# Altium footprint library RCL.PcbLib: 86 footprints (part 3 of 6)
Each footprint in its own frame and in the unit in brackets; x right, y up, seen from the top. Pads: shape width x height; smd on the part's side, far side on the other; paste and mask are expansions set on the pad; w line width, h text height; cw(c..) or ccw(c..) is an arc to the next point about the centre after c.
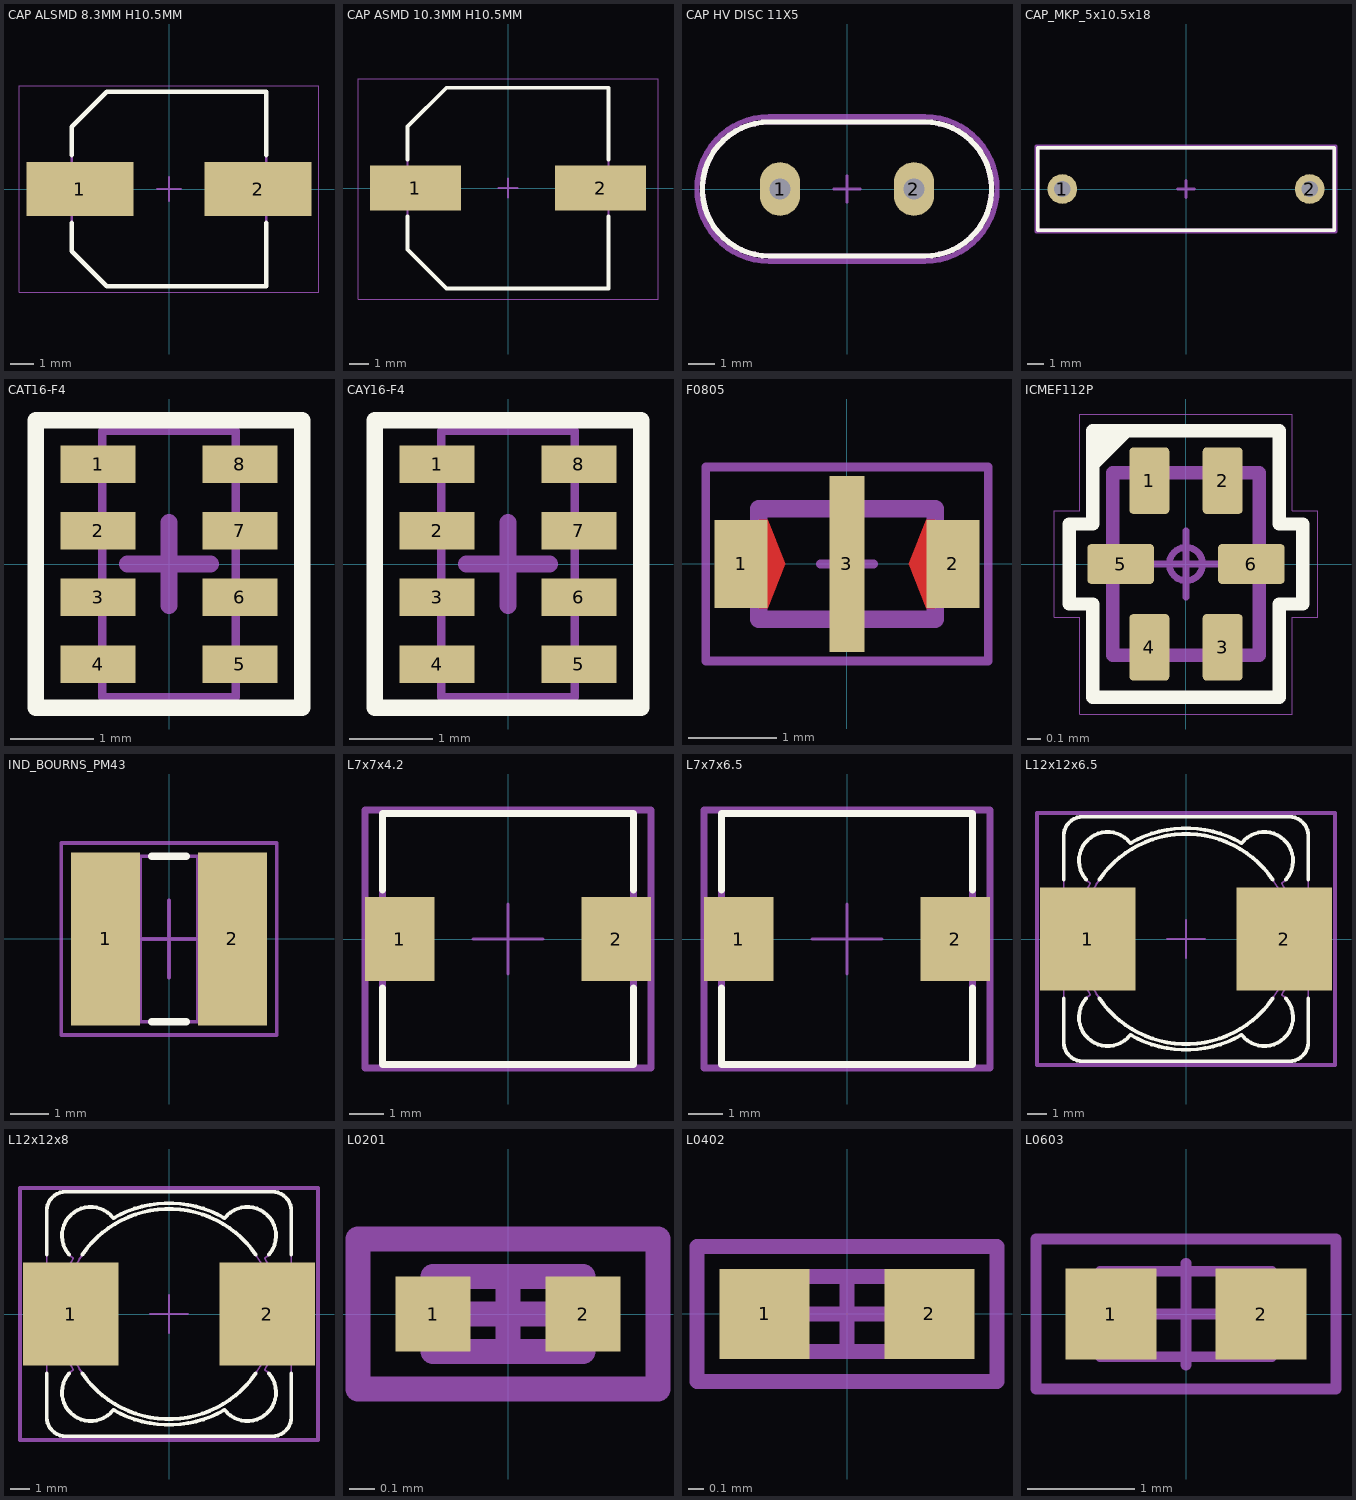
[diagram p2: the footprints below, top view; thin cyan lines are the x and y axes]

## CAP ALSMD 8.3MM H10.5MM [mm] "Aluminum Electrolytic Capacitor, Body 8.30x8.30x10.50mm, IPC Low Density"
height 10.5
pads (2):
  rect 4.55x2.3 smd: 1(-3.8,0) 2(3.8,0)
Top Overlay:
  lines w0.2: -4.15,-1.45 -4.15,-2.65 -2.65,-4.15 4.15,-4.15 4.15,-1.45 ; -4.15,1.45 -4.15,2.65 -2.65,4.15 4.15,4.15 4.15,1.45
Top Assembly (Mech3):
  lines w0.1: -4.15,-2.65 -4.15,2.65 -2.65,4.15 4.15,4.15 4.15,-4.15 -2.65,-4.15 -4.15,-2.65
  text "+" at -3.7,-0.7 h3.5
Top Courtyard:
  lines w0.05: -6.4,-4.4 6.4,-4.4 6.4,4.4 -6.4,4.4 -6.4,-4.4
  lines w0.1: -0.5,0 0.5,0 ; 0,-0.5 0,0.5
3D body "CAP ALUM 8_3mm.STEP": height 10.5, standoff 0, extent -4.95,-4.15 4.95,4.15

## CAP ASMD 10.3MM H10.5MM [mm] "Aluminum Electrolytic Capacitor, Body 10.30x10.30x10.50mm, IPC Low Density"
height 10.5
pads (2):
  rect 4.65x2.3 smd: 1(-4.75,0) 2(4.75,0)
Top Overlay:
  lines w0.2: -5.15,-1.45 -5.15,-3.15 -3.15,-5.15 5.15,-5.15 5.15,-1.45 ; -5.15,1.45 -5.15,3.15 -3.15,5.15 5.15,5.15 5.15,1.45
Top Assembly (Mech3):
  lines w0.1: -5.15,-3.15 -5.15,3.15 -3.15,5.15 5.15,5.15 5.15,-5.15 -3.15,-5.15 -5.15,-3.15
  text "+" at -4.6,-0.7 h3.5
Top Courtyard:
  lines w0.05: -7.7,-5.7 -7.7,5.6 7.7,5.6 7.7,-5.7 -7.7,-5.7
  lines w0.1: -0.5,0 0.5,0 ; 0,-0.5 0,0.5
3D body "CAP ALUM 10_3mm.STEP": height 10.5, standoff 0, extent -5.8,-5.15 5.8,5.15

## CAP HV DISC 11X5 [mm] "Capacitor, Disc, Radial, 11mm Dia x 5mm Pitch"
pads (2):
  oval 1.5x2 hole 0.8: 1(-2.5,0) 2(2.5,0)
Top Overlay:
  lines w0.2: 2.899,-2.5 -2.9,-2.5 cw(c-2.9,0) -2.9,2.5 2.899,2.5 cw(c2.899,0) 2.899,-2.5
Top Assembly (Mech3):
  lines w0.2: -2.9,-2.5 cw(c-2.9,0) -2.9,2.5 2.899,2.5 cw(c2.899,0) 2.899,-2.5 -2.9,-2.5
Top Courtyard:
  lines w0.1: -0.5,0 0.5,0 ; 0,-0.5 0,0.5
  lines w0.2: -2.899,-2.7 cw(c-2.9,0) -2.9,2.7 2.899,2.7 cw(c2.9,0) 2.9,-2.7 -2.899,-2.7
3D body "User Library-TDK_CAP_CK45_.STEP": height 15.5, standoff -2, extent -5.496,-2.5 5.497,2.5

## CAP_MKP_5x10.5x18 [mm] "Epcos B32652"
height 10.5
pads (2):
  round 1.8 hole 1 unplated: 1(-7.5,0) 2(7.5,0)
Top Overlay:
  lines w0.2: -9,-2.5 -9,2.5 9,2.5 9,-2.5 -9,-2.5
Top Assembly (Mech3):
  lines w0.2: -9,-2.5 9,-2.5 9,2.5 -9,2.5 -9,-2.5
Top Courtyard:
  lines w0.2: -0.5,0 0.5,0 ; 0,-0.5 0,0.5 ; -9.1,-2.6 9.1,-2.6 9.1,2.6 -9.1,2.6 -9.1,-2.6
3D body "User Library-B32652A_5x10_5x18.STEP": height 10.5, standoff -3, extent -9,-2.5 9,2.5

## CAT16-F4 [mm] "4 resistor 3.20x1.60mm, 0.7mm high"
height 0.7
pads (8):
  rect 0.9x0.45 smd: 1(-0.85,1.2) 2(-0.85,0.4) 3(-0.85,-0.4) 4(-0.85,-1.2) 5(0.85,-1.2) 6(0.85,-0.4) 7(0.85,0.4) 8(0.85,1.2)
Top Overlay:
  lines w0.2: -1.6,-1.725 1.6,-1.725 1.6,1.725 -1.6,1.725 -1.6,-1.725
Top Assembly (Mech3):
  lines w0.1: -0.8,-1.6 0.8,-1.6 0.8,1.6 -0.8,1.6 -0.8,-1.6
Top Courtyard:
  lines w0.05: -1.6,-1.8 -1.6,1.8 1.6,1.8 1.6,-1.8 -1.6,-1.8
  lines w0.2: -0.5,0 0.5,0 ; 0,-0.5 0,0.5
3D body "RESNET - 1206 Concave.step": height 0.6, standoff 0, extent -0.85,-1.65 0.85,1.65

## CAY16-F4 [mm] "4 resistor 3.20x1.60mm, 0.7mm high"
height 0.7
pads (8):
  rect 0.9x0.45 smd: 1(-0.85,1.2) 2(-0.85,0.4) 3(-0.85,-0.4) 4(-0.85,-1.2) 5(0.85,-1.2) 6(0.85,-0.4) 7(0.85,0.4) 8(0.85,1.2)
Top Overlay:
  lines w0.2: -1.6,-1.725 1.6,-1.725 1.6,1.725 -1.6,1.725 -1.6,-1.725
Top Assembly (Mech3):
  lines w0.1: -0.8,-1.6 0.8,-1.6 0.8,1.6 -0.8,1.6 -0.8,-1.6
Top Courtyard:
  lines w0.05: -1.6,-1.8 -1.6,1.8 1.6,1.8 1.6,-1.8 -1.6,-1.8
  lines w0.2: -0.5,0 0.5,0 ; 0,-0.5 0,0.5
3D body "RESNET - 1206 Convex.step": height 0.71, standoff 0, extent -0.837,-1.625 0.837,1.625

## F0805 [mm] "EMI Filter"
height 1
pads (3):
  rect 0.6x1 smd: 1(-1.2,0) 2(1.2,0)
  rect 0.4x2 smd: 3(0,0)
Top Layer:
  region: 1,0.5 0.9,0.5 0.7,0 0.9,-0.5 1,-0.5
  region: -1,-0.5 -0.9,-0.5 -0.7,0 -0.9,0.5 -1,0.5
Top Solder:
  region: 0.9,-0.6 0.8,-0.6 0.6,0 0.8,0.6 0.9,0.6
  region: -0.9,0.6 -0.8,0.6 -0.6,0 -0.8,-0.6 -0.9,-0.6
Top Assembly (Mech3):
  lines w0.2: -1,-0.625 1,-0.625 1,0.625 -1,0.625 -1,-0.625
Top Courtyard:
  lines w0.1: -0.3,0 0.3,0 ; 0,-0.3 0,0 0,0.3 ; -1.6,-1.1 1.6,-1.1 1.6,1.1 -1.6,1.1 -1.6,-1.1
3D body "User Library-NFL21SP.STEP": height 0.85, standoff 0, extent -1,-0.625 1,0.625

## ICMEF112P [mm]
pads (6):
  rrect20% 0.3x0.5 smd: 1(-0.275,0.625) 2(0.275,0.625) 3(0.275,-0.625) 4(-0.275,-0.625)
  rrect20% 0.5x0.3 smd: 5(-0.49,0) 6(0.49,0)
Top Overlay:
  region: -0.7,1 -0.375,1 -0.7,0.675
  lines w0.1: -0.7,1 -0.7,1 ; -0.7,1 -0.7,0.3 -0.875,0.3 -0.875,0 -0.875,-0.3 -0.7,-0.3 -0.7,-1 0.7,-1 0.7,-0.3 0.875,-0.3 0.875,0 0.875,0.3 0.7,0.3 0.7,1 ; -0.7,1 0.7,1 ; 0.7,1 0.7,1
Top Assembly (Mech3):
  lines w0.1: -0.55,-0.685 -0.55,0.685 0.55,0.685 0.55,-0.685 -0.55,-0.685
  text ".Designator" at -0.483,-4.313 h1
Top Courtyard:
  circle w0.05: c0,0 r0.125
  lines w0: -0.99,-0.4 -0.797,-0.4 -0.797,-1.125 0.797,-1.125 0.797,-0.4 0.99,-0.4 0.99,0.4 0.797,0.4 0.797,1.125 -0.797,1.125 -0.797,0.4 -0.99,0.4 -0.99,-0.4
  lines w0.05: -0.25,0 0.25,0 ; 0,-0.25 0,0.25
3D body "ICMEF112P350MFR.x_t": height 0.67, standoff 0.03, extent -0.55,-0.685 0.55,0.685

## IND_BOURNS_PM43 [mm] "SMD Inductor  Body Width 4.5mm Body Lenght 4mm Height 3.5mm"
height 3.5
pads (2):
  rect 1.8x4.5 smd: 1(-1.65,0) 2(1.65,0)
Top Overlay:
  lines w0.2: -0.45,-2.15 0.45,-2.15 ; -0.45,2.15 0.45,2.15
Top Assembly (Mech3):
  lines w0.1: -0.75,-2.15 -0.75,2.15 ; 0.75,-2.15 0.75,2.15 ; -2.381,-0.3 ccw(c0,0) -1.067,-2.15 1.067,-2.15 ccw(c0,0) 2.381,-0.3 2.1,-0.3 cw(c2.1,0) 2.1,0.3 2.381,0.3 ccw(c0,0) 1.067,2.15 -1.067,2.15 ccw(c0,0) -2.381,0.3 -2.1,0.3 cw(c-2.1,0) -2.1,-0.3 -2.381,-0.3
Top Courtyard:
  lines w0.1: -1,0 0,0 ; 0,-1 0,0 ; 0,1 0,0 ; 1,0 0,0 ; -2.8,-2.5 -2.8,2.5 2.8,2.5 2.8,-2.5 -2.8,-2.5
3D body "IND_BOURNS_PM43.stp": height 3.5, standoff 0, extent -2.381,-2.15 2.381,2.15

## L7x7x4.2 [mm] "SMD Inductor  Body Width 7.3mm Body Lenght 7.3mm Height 4.2mm"
height 6.5
pads (2):
  rect 2x2.4 smd: 1(-3.1,0) 2(3.1,0)
Top Overlay:
  lines w0.2: -3.6,-1.4 -3.6,-3.6 3.6,-3.6 3.6,-1.4 ; -3.6,1.4 -3.6,3.6 3.6,3.6 3.6,1.4
Top Assembly (Mech3):
  lines w0.2: -3.6,-3.6 -3.6,3.6 3.6,3.6 3.6,-3.6 -3.6,-3.6
Top Courtyard:
  lines w0.1: -1,0 0,0 ; 0,-1 0,0 ; 0,1 0,0 ; 1,0 0,0
  lines w0.2: -4.1,-3.7 -4.1,-3.4 -4.1,3.7 4.1,3.7 4.1,-3.7 -4.1,-3.7
3D body "B82472G6472M000.step": height 3.5, standoff 0, extent -3.65,-3.65 3.65,3.65

## L7x7x6.5 [mm] "SMD Inductor  Body Width 7.3mm Body Lenght 7.3mm Height 6.5mm"
height 6.5
pads (2):
  rect 2x2.4 smd: 1(-3.1,0) 2(3.1,0)
Top Overlay:
  lines w0.2: -3.6,-1.4 -3.6,-3.6 3.6,-3.6 3.6,-1.4 ; -3.6,1.4 -3.6,3.6 3.6,3.6 3.6,1.4
Top Assembly (Mech3):
  lines w0.2: -3.6,-3.6 -3.6,3.6 3.6,3.6 3.6,-3.6 -3.6,-3.6
Top Courtyard:
  lines w0.1: -1,0 0,0 ; 0,-1 0,0 ; 0,1 0,0 ; 1,0 0,0
  lines w0.2: -4.1,-3.7 -4.1,-3.4 -4.1,3.7 4.1,3.7 4.1,-3.7 -4.1,-3.7
3D body "User Library-DE0704.STEP": height 4.5, standoff 0, extent -3.65,-3.65 3.65,3.65

## L12x12x6.5 [mm] "SMD Inductor  Body Width 12.5mm Body Lenght 12.5mm Height 6.5mm"
height 6.5
pads (2):
  rect 5x5.4 smd: 1(-5.15,0) 2(5.15,0)
Top Overlay:
  lines w0.2: -6.4,-3.1 -6.4,-5.4 ccw(c-5.4,-5.4) -5.4,-6.4 5.4,-6.4 ccw(c5.4,-5.4) 6.4,-5.4 6.4,-3.1 ; -6.4,3.1 -6.4,5.4 cw(c-5.4,5.4) -5.4,6.4 5.4,6.4 cw(c5.4,5.4) 6.4,5.4 6.4,3.1 ; -5.218,-3.1 ccw(c-4.101,-4.101) -2.912,-5.016 ccw(c0,0) 2.912,-5.016 ccw(c4.101,-4.101) 5.218,-3.1 ; -5.218,3.1 cw(c-4.101,4.101) -2.912,5.016 cw(c0,0) 2.912,5.016 cw(c4.101,4.101) 5.218,3.1 ; -4.543,-3.1 ccw(c0,0) 4.543,-3.1 ; -4.543,3.1 cw(c0,0) 4.543,3.1
Top Assembly (Mech3):
  circle w0.1: c0,0 r5.5
  lines w0.1: -6.4,-5.4 ccw(c-5.4,-5.4) -5.4,-6.4 5.4,-6.4 ccw(c5.4,-5.4) 6.4,-5.4 6.4,5.4 ccw(c5.4,5.4) 5.4,6.4 -5.4,6.4 ccw(c-5.4,5.4) -6.4,5.4 -6.4,-5.4 ; -5.016,-2.912 cw(c0,0) -5.016,2.912 cw(c-4.101,4.101) -2.912,5.016 cw(c0,0) 2.912,5.016 cw(c4.101,4.101) 5.016,2.912 cw(c0,0) 5.016,-2.912 cw(c4.101,-4.101) 2.912,-5.016 cw(c0,0) -2.912,-5.016 cw(c-4.101,-4.101) -5.016,-2.912
Top Courtyard:
  lines w0.1: -1,0 0,0 ; 0,-1 0,0 ; 0,1 0,0 ; 1,0 0,0
  lines w0.2: -7.8,-6.6 7.8,-6.6 7.8,6.6 -7.8,6.6 -7.8,-6.6
3D body "IND_BOURNS_SRR1260.stp": height 6.5, standoff 0, extent -6.4,-6.4 6.4,6.4

## L12x12x8 [mm] "B82477G4 SMD Inductor  Body Width 12.8mm Body Lenght 12.8mm Height 8mm"
height 8
pads (2):
  rect 5x5.4 smd: 1(-5.15,0) 2(5.15,0)
Top Overlay:
  lines w0.2: -6.4,-3.1 -6.4,-5.4 ccw(c-5.4,-5.4) -5.4,-6.4 5.4,-6.4 ccw(c5.4,-5.4) 6.4,-5.4 6.4,-3.1 ; -6.4,3.1 -6.4,5.4 cw(c-5.4,5.4) -5.4,6.4 5.4,6.4 cw(c5.4,5.4) 6.4,5.4 6.4,3.1 ; -5.218,-3.1 ccw(c-4.101,-4.101) -2.912,-5.016 ccw(c0,0) 2.912,-5.016 ccw(c4.101,-4.101) 5.218,-3.1 ; -5.218,3.1 cw(c-4.101,4.101) -2.912,5.016 cw(c0,0) 2.912,5.016 cw(c4.101,4.101) 5.218,3.1 ; -4.543,-3.1 ccw(c0,0) 4.543,-3.1 ; -4.543,3.1 cw(c0,0) 4.543,3.1
Top Assembly (Mech3):
  circle w0.1: c0,0 r5.5
  lines w0.1: -6.4,-5.4 ccw(c-5.4,-5.4) -5.4,-6.4 5.4,-6.4 ccw(c5.4,-5.4) 6.4,-5.4 6.4,5.4 ccw(c5.4,5.4) 5.4,6.4 -5.4,6.4 ccw(c-5.4,5.4) -6.4,5.4 -6.4,-5.4 ; -5.016,-2.912 ccw(c-4.101,-4.101) -2.912,-5.016 ccw(c0,0) 2.912,-5.016 ccw(c4.101,-4.101) 5.016,-2.912 ccw(c0,0) 5.016,2.912 ccw(c4.101,4.101) 2.912,5.016 ccw(c0,0) -2.912,5.016 ccw(c-4.101,4.101) -5.016,2.912 ccw(c0,0) -5.016,-2.912
Top Courtyard:
  lines w0.1: -1,0 0,0 ; 0,-1 0,0 ; 0,1 0,0 ; 1,0 0,0
  lines w0.2: -7.8,-6.6 -7.8,6.6 7.8,6.6 7.8,-6.6 -7.8,-6.6
3D body "User Library-b82477g4.STEP": height 8, standoff 0, extent -6.4,-6.4 6.4,6.4

## L0201 [mm]
height 0.23
pads (2):
  rect 0.3x0.3 smd: 1(-0.3,0) 2(0.3,0)
Top Assembly (Mech3):
  lines w0.1: -0.3,-0.15 0.3,-0.15 0.3,0.15 -0.3,0.15 -0.3,-0.15
Top Courtyard:
  lines w0.1: -0.15,0 0.15,0 ; 0,-0.15 0,0.15 ; -0.6,-0.3 0.6,-0.3 0.6,0.3 -0.6,0.3 -0.6,-0.3
3D body "User Library-0201(0603M) Cap.STEP": height 0.31, standoff 0, extent -0.305,-0.152 0.305,0.152

## L0402 [mm]
height 0.35
pads (2):
  rect 0.6x0.6 smd: 1(-0.55,0) 2(0.55,0)
Top Assembly (Mech3):
  lines w0.1: -0.5,-0.25 0.5,-0.25 0.5,0.25 -0.5,0.25 -0.5,-0.25
Top Courtyard:
  lines w0.1: -0.25,0 0.25,0 ; 0,-0.25 0,0.25 ; -1,-0.45 1,-0.45 1,0.45 -1,0.45 -1,-0.45
3D body "User Library-0402(1005M) Cap.step": height 0.51, standoff 0, extent -0.508,-0.254 0.508,0.254

## L0603 [mm]
height 0.45
pads (2):
  rect 0.85x0.85 smd: 1(-0.7,0) 2(0.7,0)
Top Assembly (Mech3):
  lines w0.1: -0.8,-0.4 -0.8,0.4 0.8,0.4 0.8,-0.4 -0.8,-0.4
Top Courtyard:
  lines w0.1: -0.475,0 0.475,0 ; 0,-0.475 0,0.475 ; -1.4,-0.7 1.4,-0.7 1.4,0.7 -1.4,0.7 -1.4,-0.7
3D body "SW3dPS-0603 SMD Capacitor.STEP": height 0.3, standoff 0, extent -0.8,-0.4 0.8,0.4